# EAGLE library part 70-15A (library pot)
ModPot, 3-Section, Dual Concentric Outer Shaft Operates Section #1
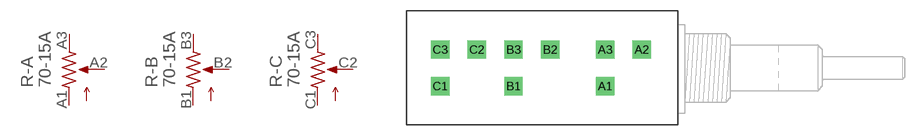
[diagram p3: symbol with the pads of 70-15A; footprint 70-15A]

Designator prefix R; gates -A=POT_US- -B=POT_US- -C=POT_US-

## 70-15A  [70-15A]
A1  -A:1  pas
A2  -A:2  pas
A3  -A:3  pas
B1  -B:1  pas
B2  -B:2  pas
B3  -B:3  pas
C1  -C:1  pas
C2  -C:2  pas
C3  -C:3  pas

## Footprint 70-15A (pad centres in mm)
70 Series ModPot 3 Deck, Dual Concentric Outer Shaft Operates Section #1
drill 1.016 pad 2.54 square: A1 -11.049,-2.54; A2 -5.969,2.54; A3 -11.049,2.54; B1 -23.749,-2.54; B2 -18.669,2.54; B3 -23.749,2.54; C1 -33.909,-2.54; C2 -28.829,2.54; C3 -33.909,2.54